# Altium footprint library PCB - LEADED - SOIC - ANALOG SOIC-20 RI-20-1.PCBLIB: 1 footprints
Each footprint in its own frame and in the unit in brackets; x right, y up, seen from the top. Pads: shape width x height; smd on the part's side, far side on the other; paste and mask are expansions set on the pad; w line width, h text height; cw(c..) or ccw(c..) is an arc to the next point about the centre after c.
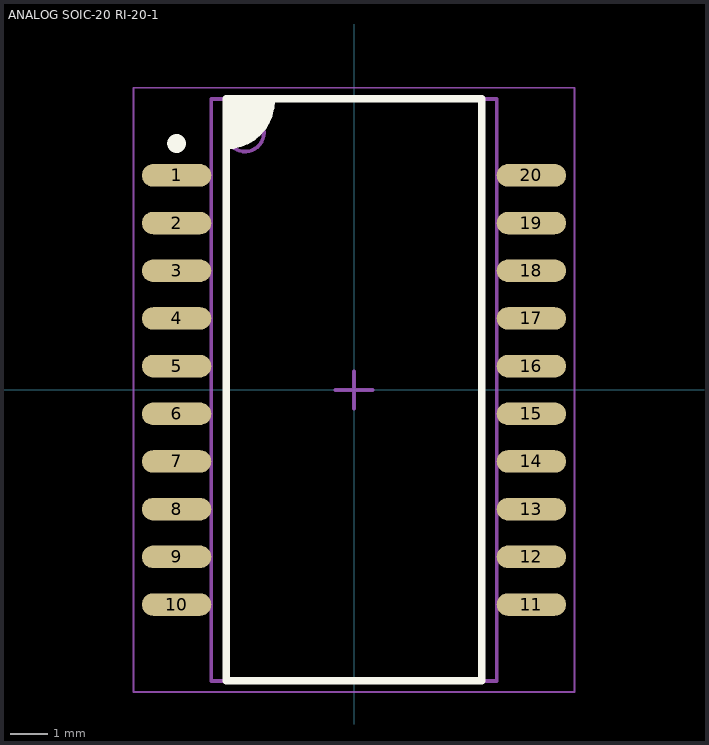
[diagram p0: the footprint, top view; thin cyan lines are the x and y axes]

## ANALOG SOIC-20 RI-20-1 [mm] "SOIC, 20-Leads, Body 15.41x7.49mm, Pitch 1.27mm, IPC Medium Density"
height 2.64
pads (20):
  oval 1.85x0.6 smd: 1(-4.725,5.715) 2(-4.725,4.445) 3(-4.725,3.175) 4(-4.725,1.905) 5(-4.725,0.635) 6(-4.725,-0.635) 7(-4.725,-1.905) 8(-4.725,-3.175) 9(-4.725,-4.445) 10(-4.725,-5.715) 11(4.725,-5.715) 12(4.725,-4.445) 13(4.725,-3.175) 14(4.725,-1.905) 15(4.725,-0.635) 16(4.725,0.635) 17(4.725,1.905) 18(4.725,3.175) 19(4.725,4.445) 20(4.725,5.715)
Top Overlay:
  circle w0.25: c-4.725,6.565 r0.125
  region: -3.4,7.7 -2.2,7.7 -2.2,7.582 -2.246,7.35 -2.337,7.132 -2.468,6.935 -2.635,6.768 -2.832,6.637 -3.05,6.546 -3.282,6.5 -3.4,6.5
  lines w0.184: -3.4,6.5 ccw(c-3.4,7.7) -2.2,7.7
  lines w0.2: -3.4,-7.75 3.4,-7.75 3.4,7.75 -3.4,7.75 -3.4,-7.75
Mechanical 13:
  circle w0.1: c-2.9,6.85 r0.5
  lines w0.1: -3.8,-7.75 -3.8,7.75 3.8,7.75 3.8,-7.75 -3.8,-7.75
Mechanical 15:
  lines w0.05: -5.875,-8.05 -5.875,8.05 5.875,8.05 5.875,-8.05 -5.875,-8.05
Mechanical 2 (Mech9):
  lines w0.1: -0.5,0 0.5,0 ; 0,-0.5 0,0.5
3D body "ANALOG SOIC-20 RI-20-1.step": height 2.64, standoff 0, extent -5.152,-7.75 5.152,7.75